# EAGLE library part FT231XQ (library EagleLibrary)
FTDI chip: USB to UART/GPIO
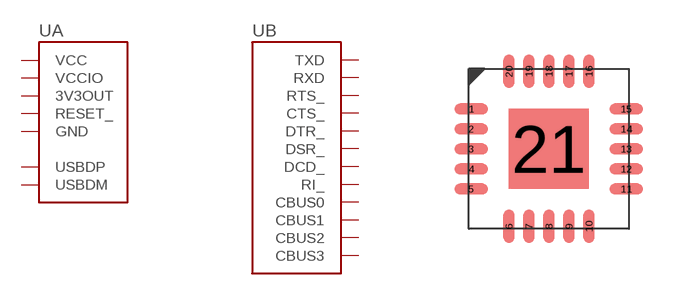
[diagram p4: symbol with the pads of FT231XQ; footprint FT231XQ]

Designator prefix U; gates A=FT231XQ_0 B=FT231XQ_1

## FT231XQ (MFG: FTDI; PN: FT231XQ)  [FT231XQ]
1  B:RXD
2  B:RI_
3  A:GND
4  B:DSR_
5  B:DCD_
6  B:CTS_
7  B:CBUS2
8  A:USBDP
9  A:USBDM
10  A:3V3OUT
11  A:RESET_
12  A:VCC
13  A:GND
14  B:CBUS1
15  B:CBUS0
16  B:CBUS3
17  B:TXD
18  B:DTR_
19  B:RTS_
20  A:VCCIO
21  A:GND

## Footprint FT231XQ (pad centres in mm)
20-QFN, 0.50 mm pitch, 4.00 X 4.00 X 1.00 mm body, 2.00 X 2.00 mm thermal pad 20-pin QFN package with 0.50 mm pitch with body size 4.00 X 4.00 X 1.00 mm and thermal pad size 2.00 X 2.00 mm
smd 0.837 x 0.27: 1 -1.937,1; 2 -1.937,0.5; 3 -1.937,0; 4 -1.937,-0.5; 5 -1.937,-1; 11 1.937,-1; 12 1.937,-0.5; 13 1.937,0; 14 1.937,0.5; 15 1.937,1
smd 0.27 x 0.837: 6 -1,-1.937; 7 -0.5,-1.937; 8 0,-1.937; 9 0.5,-1.937; 10 1,-1.937; 16 1,1.937; 17 0.5,1.937; 18 0,1.937; 19 -0.5,1.937; 20 -1,1.937
smd 2 x 2: 21 0,0